# Altium schematic symbol library Bogdanov.SchLib: 4 symbols
Pins are listed as number, name and electrical type; pins without a type are passive.

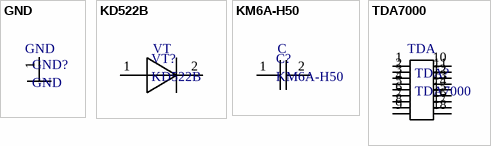
[diagram p0: symbols GND to TDA7000]

## GND
designator GND?
footprint GND
pins: 1

## KD522B
designator VT?
footprint KD522B
pins: 1, 2
text: VT

## KM6A-H50
designator C?
footprint KM6A-H50
pins: 1, 2
text: C

## TDA7000
designator TDA?
footprint TDA7000
pins: 1, 2, 3, 4, 5, 6, 7, 8, 9, 10, 11, 12, 13, 14, 15, 16, 17, 18
text: TDA